# Altium schematic symbol library task_Schlib.SchLib: 5 symbols
Pins are listed as number, name and electrical type; pins without a type are passive.

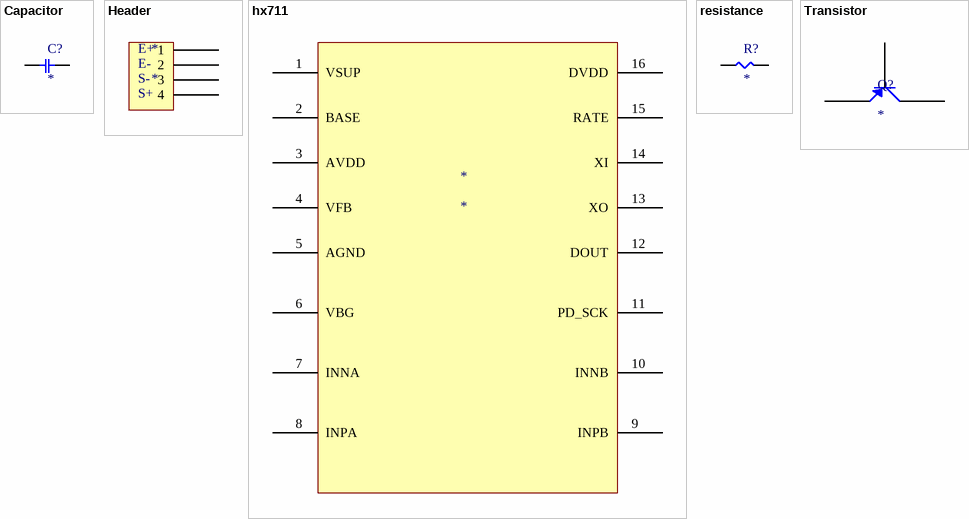
[diagram p0: symbols Capacitor to Transistor]

## Capacitor
designator C?
footprint Capacitor - duplicate
pins: 1, 2

## Header
designator *
footprint Edge Connector
pins: 1, 2, 3, 4
text: E+; E-; S-; S+

## hx711
designator *
Manufacturer: Avia Semicon (Xiamen); Manufacturer part: HX711; supplier part number: C6705483; supplier: lcsc
footprint SOP16
pins: 1 VSUP, 2 BASE, 3 AVDD, 4 VFB, 5 AGND, 6 VBG, 7 INNA, 8 INPA, 9 INPB, 10 INNB, 11 PD_SCK, 12 DOUT, 13 XO, 14 XI, 15 RATE, 16 DVDD

## resistance
designator R?
footprint Resistor
pins: 1, 2

## Transistor
designator Q?
Parameter 1: *
footprint Transistor
pins: D 2, G 1, S 3